# Altium footprint library CP2102N-A02-GQFN28.PcbLib: 4 footprints
Each footprint in its own frame and in the unit in brackets; x right, y up, seen from the top. Pads: shape width x height; smd on the part's side, far side on the other; paste and mask are expansions set on the pad; w line width, h text height; cw(c..) or ccw(c..) is an arc to the next point about the centre after c.
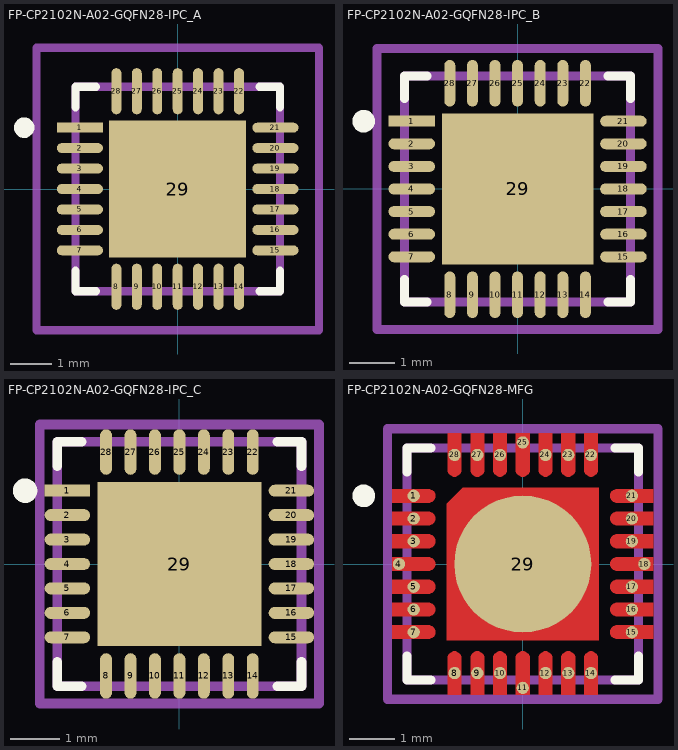
[diagram p0: the footprints below, top view; thin cyan lines are the x and y axes]

## FP-CP2102N-A02-GQFN28-IPC_A [mm]
pads (29):
  rect 1.131x0.242 smd paste+0 mask+0: 1(-2.391,1.5)
  rrect100% 1.131x0.242 smd paste+0 mask+0: 2(-2.391,1) 3(-2.391,0.5) 4(-2.391,0) 5(-2.391,-0.5) 6(-2.391,-1) 7(-2.391,-1.5) 15(2.391,-1.5) 16(2.391,-1) 17(2.391,-0.5) 18(2.391,0) 19(2.391,0.5) 20(2.391,1) 21(2.391,1.5)
  rrect100% 0.242x1.131 smd paste+0 mask+0: 8(-1.5,-2.391) 9(-1,-2.391) 10(-0.5,-2.391) 11(0,-2.391) 12(0.5,-2.391) 13(1,-2.391) 14(1.5,-2.391) 22(1.5,2.391) 23(1,2.391) 24(0.5,2.391) 25(0,2.391) 26(-0.5,2.391) 27(-1,2.391) 28(-1.5,2.391)
  rect 3.35x3.35 smd paste-1000 mask+0: 29(0,0)
Top Overlay:
  circle w0.25: c-3.756,1.5 r0.125
  lines w0.2: -2.5,-2 -2.5,-2.5 -2,-2.5 ; -2.5,2 -2.5,2.5 -2,2.5 ; 2,-2.5 2.5,-2.5 2.5,-2 ; 2,2.5 2.5,2.5 2.5,2
Top Paste:
  rectangle: -1.059,-1.059 1.059,1.059
Top Assembly:
  lines w0.2: -3.456,-3.456 3.456,-3.456 3.456,3.456 -3.456,3.456 -3.456,-3.456
  text ".Designator" at 0,0.188 h1
Top 3D Body:
  lines w0.2: -2.5,-2.5 2.5,-2.5 2.5,2.5 -2.5,2.5 -2.5,-2.5
Top Courtyard:
  lines w0.2: -3.456,-3.456 3.456,-3.456 3.456,3.456 -3.456,3.456 -3.456,-3.456
Top Component Center:
  lines w0.1: -0.5,0 0.5,0 ; 0,-0.5 0,0.5
3D body "IC_Silicon_Labs_CP2102N-A02-GQFN28_eec.STEP": height 0.25, standoff 0, extent -3.456,-3.456 3.456,3.456

## FP-CP2102N-A02-GQFN28-IPC_B [mm]
pads (29):
  rect 1.031x0.242 smd paste+0 mask+0: 1(-2.341,1.5)
  rrect100% 1.031x0.242 smd paste+0 mask+0: 2(-2.341,1) 3(-2.341,0.5) 4(-2.341,0) 5(-2.341,-0.5) 6(-2.341,-1) 7(-2.341,-1.5) 15(2.341,-1.5) 16(2.341,-1) 17(2.341,-0.5) 18(2.341,0) 19(2.341,0.5) 20(2.341,1) 21(2.341,1.5)
  rrect100% 0.242x1.031 smd paste+0 mask+0: 8(-1.5,-2.341) 9(-1,-2.341) 10(-0.5,-2.341) 11(0,-2.341) 12(0.5,-2.341) 13(1,-2.341) 14(1.5,-2.341) 22(1.5,2.341) 23(1,2.341) 24(0.5,2.341) 25(0,2.341) 26(-0.5,2.341) 27(-1,2.341) 28(-1.5,2.341)
  rect 3.35x3.35 smd paste-1000 mask+0: 29(0,0)
Top Overlay:
  circle w0.25: c-3.406,1.5 r0.125
  lines w0.2: -2.5,-2 -2.5,-2.5 -2,-2.5 ; -2.5,2 -2.5,2.5 -2,2.5 ; 2,-2.5 2.5,-2.5 2.5,-2 ; 2,2.5 2.5,2.5 2.5,2
Top Paste:
  rectangle: -1.059,-1.059 1.059,1.059
Top Assembly:
  lines w0.2: -3.106,-3.106 3.106,-3.106 3.106,3.106 -3.106,3.106 -3.106,-3.106
  text ".Designator" at 0,0.188 h1
Top 3D Body:
  lines w0.2: -2.5,-2.5 2.5,-2.5 2.5,2.5 -2.5,2.5 -2.5,-2.5
Top Courtyard:
  lines w0.2: -3.106,-3.106 3.106,-3.106 3.106,3.106 -3.106,3.106 -3.106,-3.106
Top Component Center:
  lines w0.1: -0.5,0 0.5,0 ; 0,-0.5 0,0.5
3D body "IC_Silicon_Labs_CP2102N-A02-GQFN28_eec.STEP": height 0.25, standoff 0, extent -3.106,-3.106 3.106,3.106

## FP-CP2102N-A02-GQFN28-IPC_C [mm]
pads (29):
  rect 0.931x0.242 smd paste+0 mask+0: 1(-2.291,1.5)
  rrect100% 0.931x0.242 smd paste+0 mask+0: 2(-2.291,1) 3(-2.291,0.5) 4(-2.291,0) 5(-2.291,-0.5) 6(-2.291,-1) 7(-2.291,-1.5) 15(2.291,-1.5) 16(2.291,-1) 17(2.291,-0.5) 18(2.291,0) 19(2.291,0.5) 20(2.291,1) 21(2.291,1.5)
  rrect100% 0.242x0.931 smd paste+0 mask+0: 8(-1.5,-2.291) 9(-1,-2.291) 10(-0.5,-2.291) 11(0,-2.291) 12(0.5,-2.291) 13(1,-2.291) 14(1.5,-2.291) 22(1.5,2.291) 23(1,2.291) 24(0.5,2.291) 25(0,2.291) 26(-0.5,2.291) 27(-1,2.291) 28(-1.5,2.291)
  rect 3.35x3.35 smd paste-1000 mask+0: 29(0,0)
Top Overlay:
  circle w0.25: c-3.156,1.5 r0.125
  lines w0.2: -2.5,-2 -2.5,-2.5 -2,-2.5 ; -2.5,2 -2.5,2.5 -2,2.5 ; 2,-2.5 2.5,-2.5 2.5,-2 ; 2,2.5 2.5,2.5 2.5,2
Top Paste:
  rectangle: -1.059,-1.059 1.059,1.059
Top Assembly:
  lines w0.2: -2.856,-2.856 2.856,-2.856 2.856,2.856 -2.856,2.856 -2.856,-2.856
  text ".Designator" at 0,0.188 h1
Top 3D Body:
  lines w0.2: -2.5,-2.5 2.5,-2.5 2.5,2.5 -2.5,2.5 -2.5,-2.5
Top Courtyard:
  lines w0.2: -2.856,-2.856 2.856,-2.856 2.856,2.856 -2.856,2.856 -2.856,-2.856
Top Component Center:
  lines w0.1: -0.5,0 0.5,0 ; 0,-0.5 0,0.5
3D body "IC_Silicon_Labs_CP2102N-A02-GQFN28_eec.STEP": height 0.25, standoff 0, extent -2.856,-2.856 2.856,2.856

## FP-CP2102N-A02-GQFN28-MFG [mm]
pads (29):
  round 0.27 smd paste+0 mask+0: 1(-2.4,1.5) 2(-2.4,1) 3(-2.4,0.5) 4(-2.725,0) 5(-2.4,-0.5) 6(-2.4,-1) 7(-2.4,-1.5) 8(-1.5,-2.4) 9(-1,-2.4) 10(-0.5,-2.4) 11(0,-2.725) 12(0.5,-2.4) 13(1,-2.4) 14(1.5,-2.4) 15(2.4,-1.5) 16(2.4,-1) 17(2.4,-0.5) 18(2.675,0) 19(2.4,0.5) 20(2.4,1) 21(2.4,1.5) 22(1.5,2.4) 23(1,2.4) 24(0.5,2.4) 25(0,2.675) 26(-0.5,2.4) 27(-1,2.4) 28(-1.5,2.4)
  round 3.015 smd paste-1000 mask+0: 29(0,0)
Top Layer:
  region: -2.875,1.65 -2.075,1.65 -2.045,1.65 -1.99,1.627 -1.948,1.585 -1.925,1.53 -1.925,1.5 -1.925,1.47 -1.948,1.415 -1.99,1.373 -2.045,1.35 -2.075,1.35 -2.875,1.35
  region: -2.875,1.15 -2.075,1.15 -2.045,1.15 -1.99,1.127 -1.948,1.085 -1.925,1.03 -1.925,1 -1.925,0.97 -1.948,0.915 -1.99,0.873 -2.045,0.85 -2.075,0.85 -2.875,0.85
  region: -2.875,0.65 -2.075,0.65 -2.045,0.65 -1.99,0.627 -1.948,0.585 -1.925,0.53 -1.925,0.5 -1.925,0.47 -1.948,0.415 -1.99,0.373 -2.045,0.35 -2.075,0.35 -2.875,0.35
  region: -2.875,0.15 -2.075,0.15 -2.045,0.15 -1.99,0.127 -1.948,0.085 -1.925,0.03 -1.925,0 -1.925,-0.03 -1.948,-0.085 -1.99,-0.127 -2.045,-0.15 -2.075,-0.15 -2.875,-0.15
  region: -2.875,-0.35 -2.075,-0.35 -2.045,-0.35 -1.99,-0.373 -1.948,-0.415 -1.925,-0.47 -1.925,-0.5 -1.925,-0.53 -1.948,-0.585 -1.99,-0.627 -2.045,-0.65 -2.075,-0.65 -2.875,-0.65
  region: -2.875,-0.85 -2.075,-0.85 -2.045,-0.85 -1.99,-0.873 -1.948,-0.915 -1.925,-0.97 -1.925,-1 -1.925,-1.03 -1.948,-1.085 -1.99,-1.127 -2.045,-1.15 -2.075,-1.15 -2.875,-1.15
  region: -2.875,-1.35 -2.075,-1.35 -2.045,-1.35 -1.99,-1.373 -1.948,-1.415 -1.925,-1.47 -1.925,-1.5 -1.925,-1.53 -1.948,-1.585 -1.99,-1.627 -2.045,-1.65 -2.075,-1.65 -2.875,-1.65
  region: 2.875,-1.65 2.075,-1.65 2.045,-1.65 1.99,-1.627 1.948,-1.585 1.925,-1.53 1.925,-1.5 1.925,-1.47 1.948,-1.415 1.99,-1.373 2.045,-1.35 2.075,-1.35 2.875,-1.35
  region: 2.875,-1.15 2.075,-1.15 2.045,-1.15 1.99,-1.127 1.948,-1.085 1.925,-1.03 1.925,-1 1.925,-0.97 1.948,-0.915 1.99,-0.873 2.045,-0.85 2.075,-0.85 2.875,-0.85
  region: 2.875,-0.65 2.075,-0.65 2.045,-0.65 1.99,-0.627 1.948,-0.585 1.925,-0.53 1.925,-0.5 1.925,-0.47 1.948,-0.415 1.99,-0.373 2.045,-0.35 2.075,-0.35 2.875,-0.35
  region: 2.875,-0.15 2.075,-0.15 2.045,-0.15 1.99,-0.127 1.948,-0.085 1.925,-0.03 1.925,0 1.925,0.03 1.948,0.085 1.99,0.127 2.045,0.15 2.075,0.15 2.875,0.15
  region: 2.875,0.35 2.075,0.35 2.045,0.35 1.99,0.373 1.948,0.415 1.925,0.47 1.925,0.5 1.925,0.53 1.948,0.585 1.99,0.627 2.045,0.65 2.075,0.65 2.875,0.65
  region: 2.875,0.85 2.075,0.85 2.045,0.85 1.99,0.873 1.948,0.915 1.925,0.97 1.925,1 1.925,1.03 1.948,1.085 1.99,1.127 2.045,1.15 2.075,1.15 2.875,1.15
  region: 2.875,1.35 2.075,1.35 2.045,1.35 1.99,1.373 1.948,1.415 1.925,1.47 1.925,1.5 1.925,1.53 1.948,1.585 1.99,1.627 2.045,1.65 2.075,1.65 2.875,1.65
  region: -1.65,-2.875 -1.65,-2.075 -1.65,-2.045 -1.627,-1.99 -1.585,-1.948 -1.53,-1.925 -1.5,-1.925 -1.47,-1.925 -1.415,-1.948 -1.373,-1.99 -1.35,-2.045 -1.35,-2.075 -1.35,-2.875
  region: -1.15,-2.875 -1.15,-2.075 -1.15,-2.045 -1.127,-1.99 -1.085,-1.948 -1.03,-1.925 -1,-1.925 -0.97,-1.925 -0.915,-1.948 -0.873,-1.99 -0.85,-2.045 -0.85,-2.075 -0.85,-2.875
  region: -0.65,-2.875 -0.65,-2.075 -0.65,-2.045 -0.627,-1.99 -0.585,-1.948 -0.53,-1.925 -0.5,-1.925 -0.47,-1.925 -0.415,-1.948 -0.373,-1.99 -0.35,-2.045 -0.35,-2.075 -0.35,-2.875
  region: -0.15,-2.875 -0.15,-2.075 -0.15,-2.045 -0.127,-1.99 -0.085,-1.948 -0.03,-1.925 0,-1.925 0.03,-1.925 0.085,-1.948 0.127,-1.99 0.15,-2.045 0.15,-2.075 0.15,-2.875
  region: 0.35,-2.875 0.35,-2.075 0.35,-2.045 0.373,-1.99 0.415,-1.948 0.47,-1.925 0.5,-1.925 0.53,-1.925 0.585,-1.948 0.627,-1.99 0.65,-2.045 0.65,-2.075 0.65,-2.875
  region: 0.85,-2.875 0.85,-2.075 0.85,-2.045 0.873,-1.99 0.915,-1.948 0.97,-1.925 1,-1.925 1.03,-1.925 1.085,-1.948 1.127,-1.99 1.15,-2.045 1.15,-2.075 1.15,-2.875
  region: 1.35,-2.875 1.35,-2.075 1.35,-2.045 1.373,-1.99 1.415,-1.948 1.47,-1.925 1.5,-1.925 1.53,-1.925 1.585,-1.948 1.627,-1.99 1.65,-2.045 1.65,-2.075 1.65,-2.875
  region: 1.65,2.875 1.65,2.075 1.65,2.045 1.627,1.99 1.585,1.948 1.53,1.925 1.5,1.925 1.47,1.925 1.415,1.948 1.373,1.99 1.35,2.045 1.35,2.075 1.35,2.875
  region: 1.15,2.875 1.15,2.075 1.15,2.045 1.127,1.99 1.085,1.948 1.03,1.925 1,1.925 0.97,1.925 0.915,1.948 0.873,1.99 0.85,2.045 0.85,2.075 0.85,2.875
  region: 0.65,2.875 0.65,2.075 0.65,2.045 0.627,1.99 0.585,1.948 0.53,1.925 0.5,1.925 0.47,1.925 0.415,1.948 0.373,1.99 0.35,2.045 0.35,2.075 0.35,2.875
  region: 0.15,2.875 0.15,2.075 0.15,2.045 0.127,1.99 0.085,1.948 0.03,1.925 0,1.925 -0.03,1.925 -0.085,1.948 -0.127,1.99 -0.15,2.045 -0.15,2.075 -0.15,2.875
  region: -0.35,2.875 -0.35,2.075 -0.35,2.045 -0.373,1.99 -0.415,1.948 -0.47,1.925 -0.5,1.925 -0.53,1.925 -0.585,1.948 -0.627,1.99 -0.65,2.045 -0.65,2.075 -0.65,2.875
  region: -0.85,2.875 -0.85,2.075 -0.85,2.045 -0.873,1.99 -0.915,1.948 -0.97,1.925 -1,1.925 -1.03,1.925 -1.085,1.948 -1.127,1.99 -1.15,2.045 -1.15,2.075 -1.15,2.875
  region: -1.35,2.875 -1.35,2.075 -1.35,2.045 -1.373,1.99 -1.415,1.948 -1.47,1.925 -1.5,1.925 -1.53,1.925 -1.585,1.948 -1.627,1.99 -1.65,2.045 -1.65,2.075 -1.65,2.875
  region: -1.675,1.325 -1.325,1.675 1.675,1.675 1.675,-1.675 -1.675,-1.675
Top Overlay:
  circle w0.25: c-3.5,1.5 r0.125
  lines w0.2: -2.55,-2.025 -2.55,-2.55 -2.025,-2.55 ; -2.55,2.025 -2.55,2.55 -2.025,2.55 ; 2.025,-2.55 2.55,-2.55 2.55,-2.025 ; 2.025,2.55 2.55,2.55 2.55,2.025
Top Paste:
  rectangle: -1.35,-1.35 -0.15,-0.15
  rectangle: 0.15,-1.35 1.35,-0.15
  rectangle: 0.15,0.15 1.35,1.35
  rectangle: -1.35,0.15 -0.15,1.35
Top Assembly:
  lines w0.2: -2.975,-2.975 2.975,-2.975 2.975,2.975 -2.975,2.975 -2.975,-2.975
  text ".Designator" at 0,0.188 h1
Top 3D Body:
  lines w0.2: -2.55,-2.55 2.55,-2.55 2.55,2.55 -2.55,2.55 -2.55,-2.55
Top Courtyard:
  lines w0.2: -2.975,-2.975 2.975,-2.975 2.975,2.975 -2.975,2.975 -2.975,-2.975
Top Component Center:
  lines w0.1: -0.5,0 0.5,0 ; 0,-0.5 0,0.5
3D body "IC_Silicon_Labs_CP2102N-A02-GQFN28_eec.STEP": height 0.25, standoff 0, extent -2.975,-2.975 2.975,2.975